# Altium footprint library power.PcbLib: 35 footprints (part 2 of 3)
Each footprint in its own frame and in the unit in brackets; x right, y up, seen from the top. Pads: shape width x height; smd on the part's side, far side on the other; paste and mask are expansions set on the pad; w line width, h text height; cw(c..) or ccw(c..) is an arc to the next point about the centre after c.
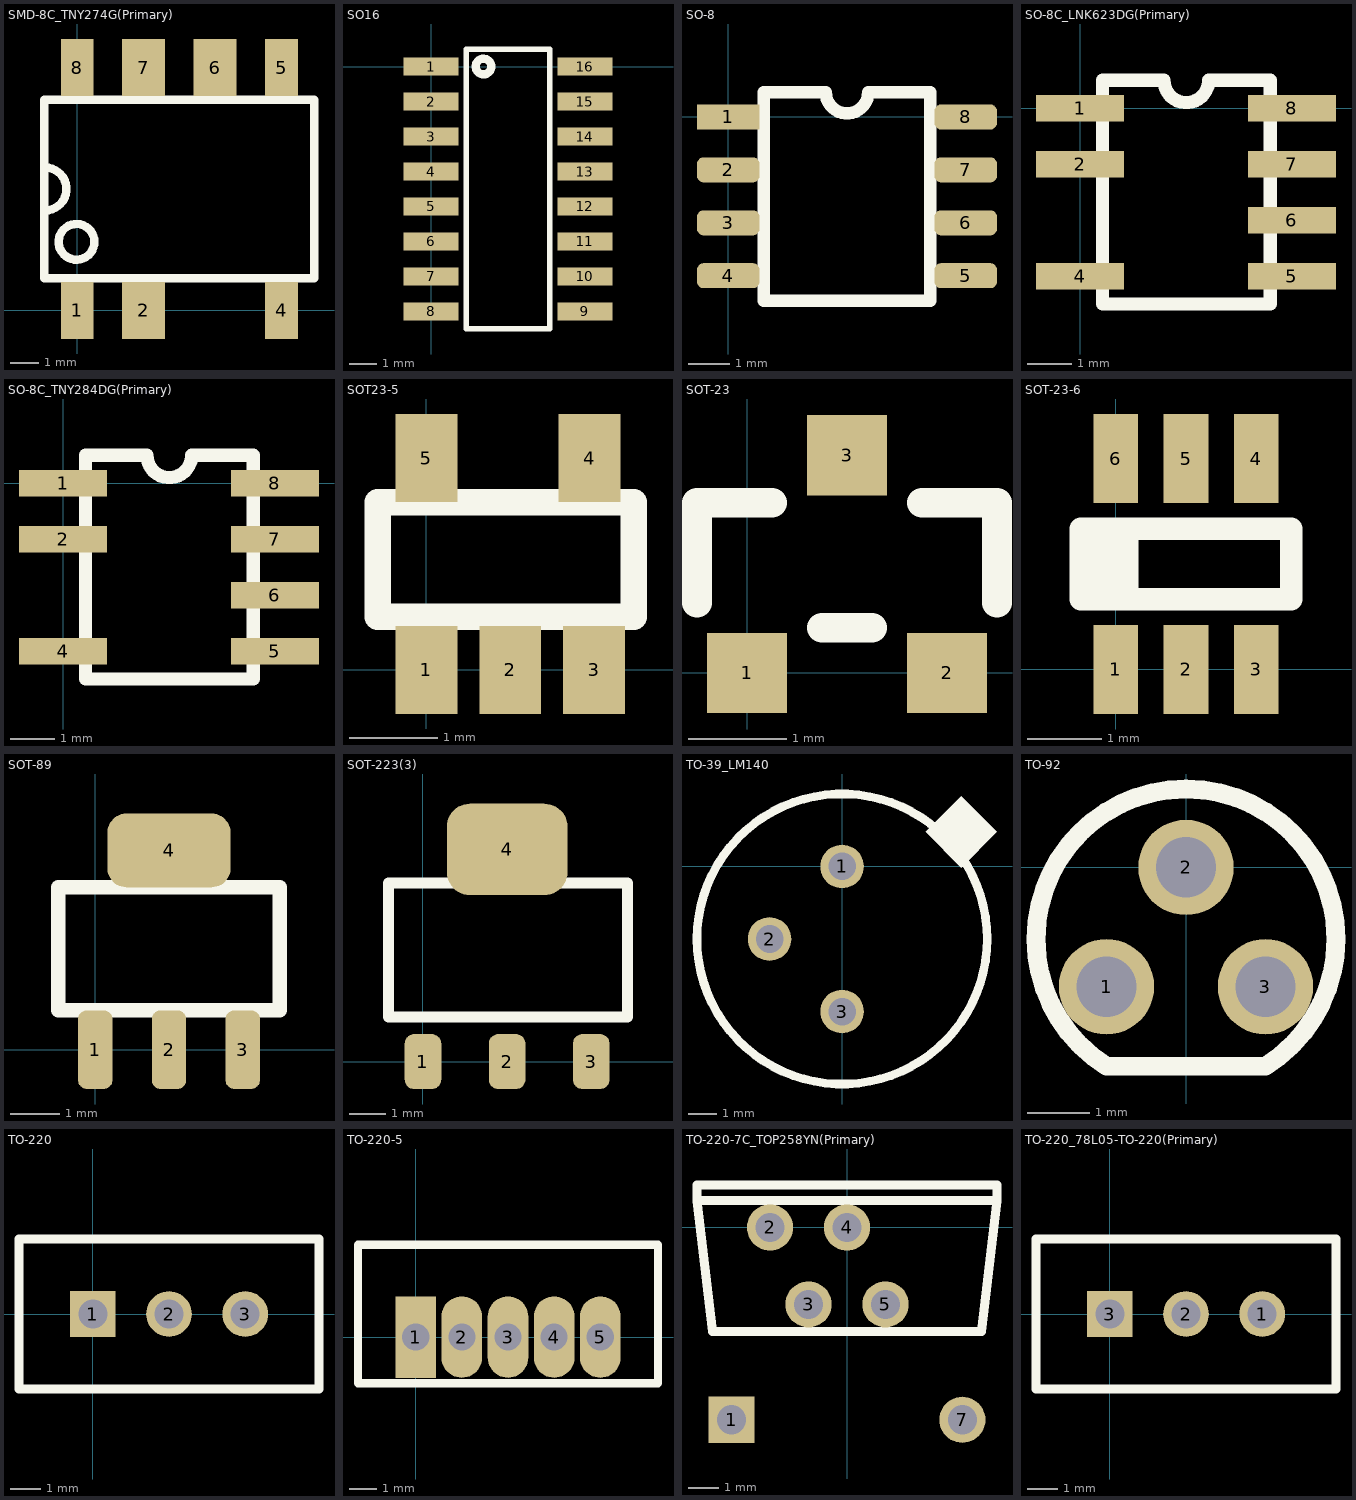
[diagram p1: the footprints below, top view; thin cyan lines are the x and y axes]

## SMD-8C_TNY274G(Primary) [mil]
pads (7):
  rect 46x80 smd: 1(0,0) 4(286,0) 5(286,340) 8(0,340)
  rect 60x80 smd: 2(93,0) 6(193,340) 7(93,340)
Top Overlay:
  circle w11.81: c-1,96 r25.02
  lines w11.81: -45,139.98 ccw(c-45,170) -45,200.02 ; -46,45 332,45 332,295 -46,295 -46,45

## SO16 [mm]
pads (16):
  rect 2x0.66 smd: 1(0,0) 2(0,-1.27) 3(0,-2.54) 4(0,-3.81) 5(0,-5.08) 6(0,-6.35) 7(0,-7.62) 8(0,-8.89) 9(5.588,-8.89) 10(5.588,-7.62) 11(5.588,-6.35) 12(5.588,-5.08) 13(5.588,-3.81) 14(5.588,-2.54) 15(5.588,-1.27) 16(5.588,0)
Top Overlay:
  circle w0.3: c1.905,0 r0.284
  lines w0.2: 1.27,-9.525 1.27,0.635 4.318,0.635 4.318,-9.525 1.27,-9.525
3D body "User Library-SOIC-16-1.step": height 1.4, standoff 0, extent -0.206,-9.395 5.794,0.505

## SO-8 [mm]
pads (8):
  rect 1.5x0.6 smd: 1(0,0)
  rrect50% 1.5x0.6 smd: 2(0,-1.27) 3(0,-2.54) 4(0,-3.81) 5(5.7,-3.81) 6(5.7,-2.54) 7(5.7,-1.27) 8(5.7,0)
Top Overlay:
  lines w0.3: 0.85,-4.405 0.85,0.595 2.342,0.595 ccw(c2.85,0.595) 3.358,0.595 4.85,0.595 4.85,-4.405 0.85,-4.405
3D body "User Library-SOIC-8-1.step": height 1.75, standoff 0, extent -0.181,-4.355 5.819,0.545

## SO-8C_LNK623DG(Primary) [mm]
pads (7):
  rect 2x0.6 smd: 1(0,0) 2(0,-1.27) 4(0,-3.81) 5(4.811,-3.81) 6(4.811,-2.54) 7(4.811,-1.27) 8(4.811,0)
Top Overlay:
  lines w0.3: 0.508,-4.445 0.508,0.635 1.905,0.635 ccw(c2.413,0.635) 2.921,0.635 4.318,0.635 4.318,-4.445 0.508,-4.445

## SO-8C_TNY284DG(Primary) [mm]
pads (7):
  rect 2x0.6 smd: 1(0,0) 2(0,-1.27) 4(0,-3.81) 5(4.811,-3.81) 6(4.811,-2.54) 7(4.811,-1.27) 8(4.811,0)
Top Overlay:
  lines w0.3: 0.508,-4.445 4.318,-4.445 4.318,0.635 2.921,0.635 cw(c2.413,0.635) 1.905,0.635 0.508,0.635 0.508,-4.445
3D body "User Library-SOIC-8-1.STEP": height 1.75, standoff 0, extent -0.612,-4.355 5.388,0.545

## SOT23-5 [mm]
pads (5):
  rect 0.7x1 smd: 1(0,0) 2(0.95,0) 3(1.9,0) 4(1.85,2.4) 5(0,2.4)
Top Overlay:
  lines w0.3: -0.55,0.6 2.35,0.6 2.35,1.9 -0.55,1.9 -0.55,0.6

## SOT-23 [mil]
pads (3):
  rect 32x32 smd: 1(0,0) 2(80,0) 3(40,87)
Top Overlay:
  lines w11.81: -20,28 -20,68 10,68 ; 30,18 50,18 ; 70,68 100,68 100,28

## SOT-23-6 [mm]
pads (6):
  rect 0.6x1.2 smd: 1(0,0) 2(0.945,0) 3(1.89,0) 4(1.89,2.835) 5(0.945,2.835) 6(0,2.835)
Top Overlay:
  lines w0.3: -0.158,0.945 -0.158,1.89 ; -0.473,0.945 0.158,1.89 0.158,0.945 -0.473,1.89 ; -0.473,0.945 2.362,0.945 2.362,1.89 -0.473,1.89 ; -0.473,0.945 -0.473,1.89

## SOT-89 [mm]
pads (4):
  rrect50% 0.7x1.6 smd: 1(0,0) 2(1.5,0) 3(3,0)
  rrect50% 2.5x1.5 smd: 4(1.5,4.05)
Top Overlay:
  lines w0.3: -0.75,0.8 3.75,0.8 3.75,3.3 -0.75,3.3 -0.75,0.8
3D body "User Library-SOT89.STEP": height 1.59, standoff -0.02, extent -0.794,-0.199 3.806,4.051

## SOT-223(3) [mm]
pads (4):
  rrect50% 1x1.5 smd: 1(0,0) 2(2.3,0) 3(4.6,0)
  rrect50% 3.3x2.5 smd: 4(2.3,5.8)
Top Overlay:
  lines w0.3: -0.94,1.219 -0.94,4.877 5.588,4.877 5.588,1.219 -0.94,1.219
3D body "User Library-SOT-223-1.step": height 1.64, standoff -0.01, extent -0.938,-0.477 5.562,6.523

## TO-39_LM140 [mil]
pads (3):
  round 60 hole 38: 1(0,0) 2(-100,-100) 3(0,-200)
Top Overlay:
  circle w11.81: c0,-100 r200
  region: 213.54,47.56 164.41,96.69 115.28,47.56 164.41,-1.57

## TO-92 [mil]
pads (3):
  round 60 hole 38: 1(-50,-75) 2(0,0) 3(50,-75)
Top Overlay:
  lines w11.81: -49.99,-125 cw(c0,-45) 49.99,-125 -50,-125

## TO-220 [mil]
pads (3):
  rect 60x60 hole 38: 1(0,0)
  round 60 hole 38: 2(100,0) 3(200,0)
Top Overlay:
  lines w11.81: -96.85,-98.43 -96.85,98.43 296.85,98.43 296.85,-98.43 -96.85,-98.43

## TO-220-5 [mm]
pads (5):
  rect 1.5x3 hole 1: 1(0,0)
  oval 1.5x3 hole 1: 2(1.7,0) 3(3.4,0) 4(5.1,0) 5(6.8,0)
Top Overlay:
  lines w0.3: -2.125,-1.7 8.925,-1.7 8.925,3.4 -2.125,3.4 -2.125,-1.7

## TO-220-7C_TOP258YN(Primary) [mil]
pads (6):
  rect 60x60 hole 38: 1(-150,-250)
  round 60 hole 38: 2(-100,0) 3(-50,-100) 4(0,0) 5(50,-100) 7(150,-250)
Top Overlay:
  lines w11.81: -195,35 195,35 ; -195,35 -175,-135 175,-135 195,35 ; -195,35 -195,55 195,55 195,35

## TO-220_78L05-TO-220(Primary) [mil]
pads (3):
  round 60 hole 38: 1(200,0) 2(100,0)
  rect 60x60 hole 38: 3(0,0)
Top Overlay:
  lines w11.81: -96.85,-98.43 296.85,-98.43 296.85,98.43 -96.85,98.43 -96.85,-98.43